# EAGLE library part PIN_HEADER_6-CONDUCTOR (library main_library)
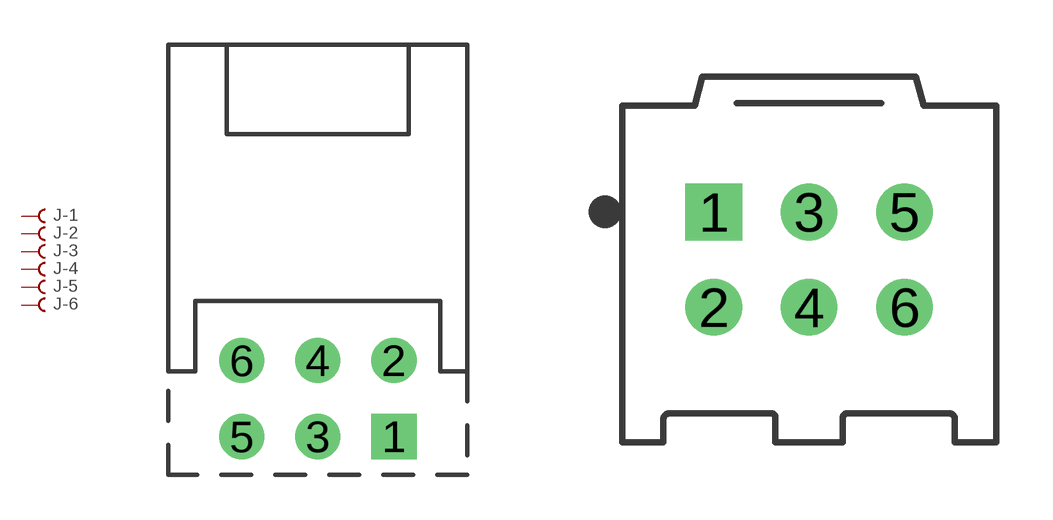
[diagram p5: symbol with the pads of AUPN6068-PIN-HEADER-6POS; footprints AUPN6068-PIN-HEADER-6POS, AUPN6070-PIN-HEADER-6POS]

Designator prefix J; gates -1=F -2=F -3=F -4=F -5=F -6=F

## PIN_HEADER_6-CONDUCTORAUPN6068 (AUPN: 6068; DESCRIPTION: CONN HEADER 6POS .100" R/A GOLD; DISTRIBUTOR: DigiKey; DISTRIBUTOR_PART_NUMBER: WM8275-ND; INCLUDE_IN_BOM: yes; MANUFACTURER: Molex Inc; MANUFACTURER_PART_NUMBER: 0901303206; SCREAMING_CIRCUITS_PLACEMENT_TYPE: through-hole)  [AUPN6068-PIN-HEADER-6POS]
1  -1:F  pas
2  -2:F  pas
3  -3:F  pas
4  -4:F  pas
5  -5:F  pas
6  -6:F  pas

## PIN_HEADER_6-CONDUCTORAUPN6070 (AUPN: 6070; DESCRIPTION: CONN HEADER 6POS .100" STR GOLD; DISTRIBUTOR: DigiKey; DISTRIBUTOR_PART_NUMBER: WM8247-ND; INCLUDE_IN_BOM: yes; MANUFACTURER: Molex Inc; MANUFACTURER_PART_NUMBER: 0901301206; SCREAMING_CIRCUITS_PLACEMENT_TYPE: through-hole)  [AUPN6070-PIN-HEADER-6POS]
Pads as for AUPN6068-PIN-HEADER-6POS

## Footprint AUPN6068-PIN-HEADER-6POS (pad centres in mm)
drill 1 square: 1 2.54,-7.62
drill 1: 2 2.54,-5.08; 3 0,-7.62; 4 0,-5.08; 5 -2.54,-7.62; 6 -2.54,-5.08

## Footprint AUPN6070-PIN-HEADER-6POS (pad centres in mm)
drill 1 square: 1 -2.54,1.27
drill 1: 2 -2.54,-1.27; 3 0,1.27; 4 0,-1.27; 5 2.54,1.27; 6 2.54,-1.27